# EAGLE library part 502702-0891 (library Molex SD - 502702)
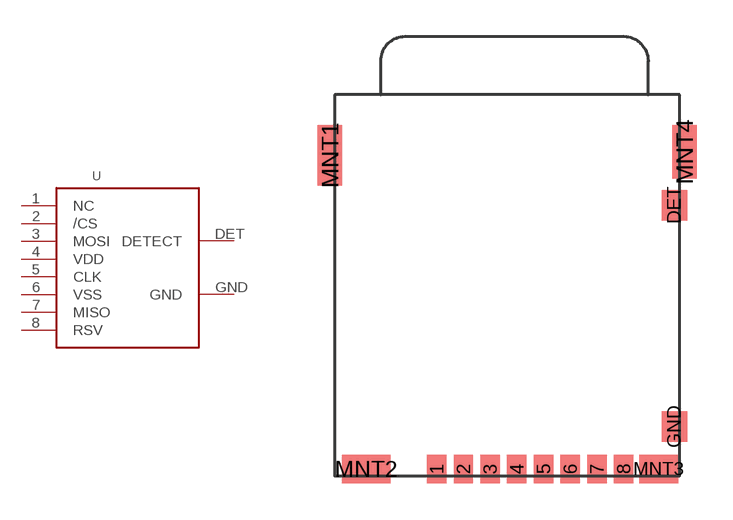
[diagram p0: symbol with the pads of 502702; footprint 502702]

Designator prefix -

## 502702-0891  [502702]
1  NC  nc
2  /CS  in
3  MOSI  in
4  VDD  pwr
5  CLK  in
6  VSS  pwr
7  MISO  out
8  RSV  nc
DET  DETECT  out
GND  GND  pwr

## Footprint 502702 (pad centres in mm)
smd 0.8 x 1.16: 1 4.9,0.58; 2 6,0.58; 3 7.1,0.58; 4 8.2,0.58; 5 9.3,0.58; 6 10.4,0.58; 7 11.5,0.58; 8 12.6,0.58
smd 1.05 x 1.25: DET 14.685,11.45; GND 14.685,2.325
smd 1 x 2.5: MNT1 0.5,13.5
smd 2 x 1.16: MNT2 2,0.58
smd 1.6 x 1.16: MNT3 14.04,0.58
smd 1 x 2.2: MNT4 15.1,13.65